# EAGLE library part TD62503PG (library transistor_array)
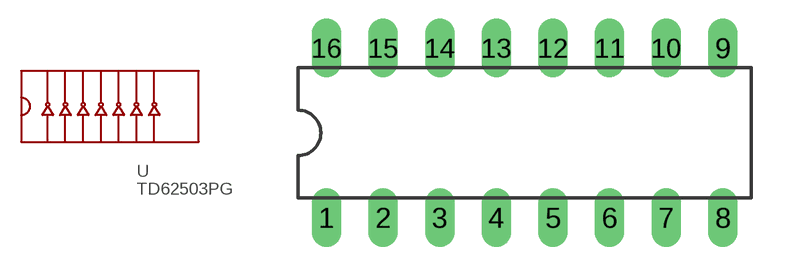
[diagram p0: symbol with the pads of DIL16; footprint DIL16]

Designator prefix -

## TD62503PG  [DIL16]
1  I1  in
2  I2  in
3  I3  in
4  I4  in
5  I5  in
6  I6  in
7  I7  in
8  COM_E  in
9  NC  nc
10  O7  out
11  O6  out
12  O5  out
13  O4  out
14  O3  out
15  O2  out
16  O1  out

## Footprint DIL16 (pad centres in mm)
drill 0.813 long: 1 -7.62,-3.81; 2 -5.08,-3.81; 3 -2.54,-3.81; 4 0,-3.81; 5 2.54,-3.81; 6 5.08,-3.81; 7 7.62,-3.81; 8 10.16,-3.81; 9 10.16,3.81; 10 7.62,3.81; 11 5.08,3.81; 12 2.54,3.81; 13 0,3.81; 14 -2.54,3.81; 15 -5.08,3.81; 16 -7.62,3.81